# EAGLE library part 1365-90 (library con-leotronics)
DUAL ROW STRAIGHT HEADER 1364 SERIES. 1.27mm x 1.27mm. Without Fixing Post. SMT Source: http://www.leotronics.co.uk/Conexcon/Data%20Sheets/sec.%20A/1364ing.pdf
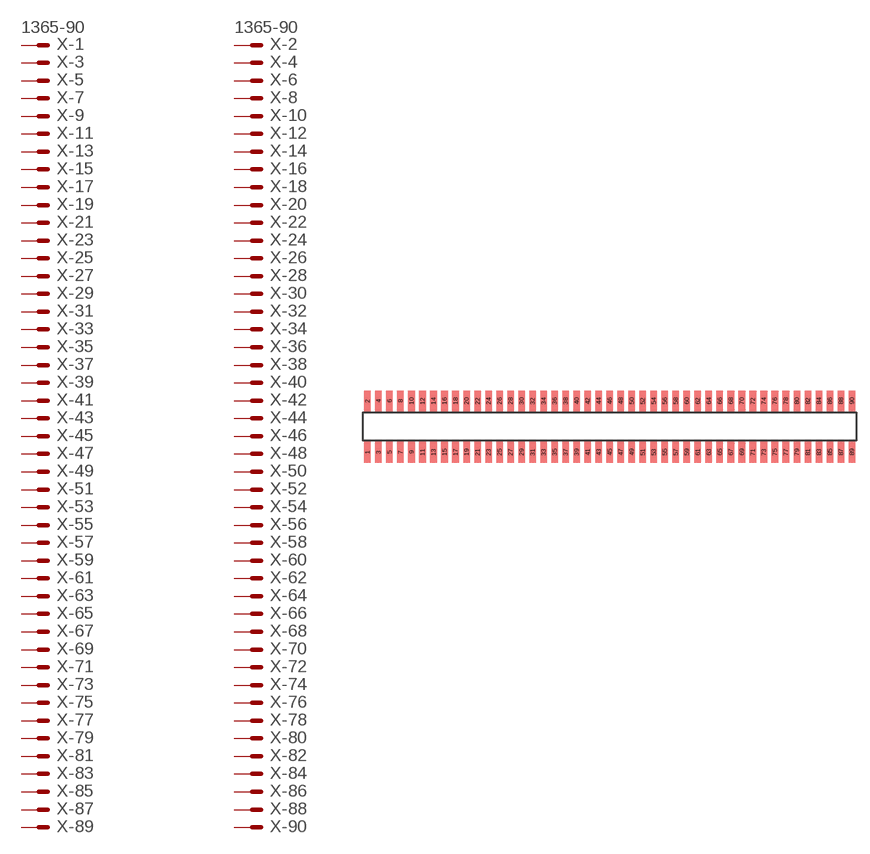
[diagram p87: symbol with the pads of 1365-90; footprint 1365-90]

Designator prefix X; gates -1=MVAL -2=MVAL -3=M -4=M -5=M -6=M -7=M -8=M -9=M -10=M -11=M -12=M -13=M -14=M -15=M -16=M -17=M -18=M -19=M -20=M -21=M -22=M -23=M -24=M -25=M -26=M -27=M -28=M -29=M -30=M -31=M -32=M -33=M -34=M -35=M -36=M -37=M -38=M -39=M -40=M -41=M -42=M -43=M -44=M -45=M -46=M -47=M -48=M -49=M -50=M -51=M -52=M -53=M -54=M -55=M -56=M -57=M -58=M -59=M -60=M -61=M -62=M -63=M -64=M -65=M -66=M -67=M -68=M -69=M -70=M -71=M -72=M -73=M -74=M -75=M -76=M -77=M -78=M -79=M -80=M -81=M -82=M -83=M -84=M -85=M -86=M -87=M -88=M -89=M -90=M

## 1365-90 (OC_FARNELL: unknown; OC_NEWARK: unknown)  [1365-90]
1  -1:S  pas
2  -2:S  pas
3  -3:S  pas
4  -4:S  pas
5  -5:S  pas
6  -6:S  pas
7  -7:S  pas
8  -8:S  pas
9  -9:S  pas
10  -10:S  pas
11  -11:S  pas
12  -12:S  pas
13  -13:S  pas
14  -14:S  pas
15  -15:S  pas
16  -16:S  pas
17  -17:S  pas
18  -18:S  pas
19  -19:S  pas
20  -20:S  pas
21  -21:S  pas
22  -22:S  pas
23  -23:S  pas
24  -24:S  pas
25  -25:S  pas
26  -26:S  pas
27  -27:S  pas
28  -28:S  pas
29  -29:S  pas
30  -30:S  pas
31  -31:S  pas
32  -32:S  pas
33  -33:S  pas
34  -34:S  pas
35  -35:S  pas
36  -36:S  pas
37  -37:S  pas
38  -38:S  pas
39  -39:S  pas
40  -40:S  pas
41  -41:S  pas
42  -42:S  pas
43  -43:S  pas
44  -44:S  pas
45  -45:S  pas
46  -46:S  pas
47  -47:S  pas
48  -48:S  pas
49  -49:S  pas
50  -50:S  pas
51  -51:S  pas
52  -52:S  pas
53  -53:S  pas
54  -54:S  pas
55  -55:S  pas
56  -56:S  pas
57  -57:S  pas
58  -58:S  pas
59  -59:S  pas
60  -60:S  pas
61  -61:S  pas
62  -62:S  pas
63  -63:S  pas
64  -64:S  pas
65  -65:S  pas
66  -66:S  pas
67  -67:S  pas
68  -68:S  pas
69  -69:S  pas
70  -70:S  pas
71  -71:S  pas
72  -72:S  pas
73  -73:S  pas
74  -74:S  pas
75  -75:S  pas
76  -76:S  pas
77  -77:S  pas
78  -78:S  pas
79  -79:S  pas
80  -80:S  pas
81  -81:S  pas
82  -82:S  pas
83  -83:S  pas
84  -84:S  pas
85  -85:S  pas
86  -86:S  pas
87  -87:S  pas
88  -88:S  pas
89  -89:S  pas
90  -90:S  pas

## Footprint 1365-90 (pad centres in mm)
DUAL ROW STRAIGHT HEADER 1364 SERIES. 1.27mm x 1.27mm. Without Fixing Post. SMT Source: http://www.leotronics.co.uk/Conexcon/Data%20Sheets/sec.%20A/1364ing.pdf
smd 0.76 x 2.4: 1 -27.94,-2.95; 2 -27.94,2.95; 3 -26.67,-2.95; 4 -26.67,2.95; 5 -25.4,-2.95; 6 -25.4,2.95; 7 -24.13,-2.95; 8 -24.13,2.95; 9 -22.86,-2.95; 10 -22.86,2.95; 11 -21.59,-2.95; 12 -21.59,2.95; 13 -20.32,-2.95; 14 -20.32,2.95; 15 -19.05,-2.95; 16 -19.05,2.95; 17 -17.78,-2.95; 18 -17.78,2.95; 19 -16.51,-2.95; 20 -16.51,2.95; 21 -15.24,-2.95; 22 -15.24,2.95; 23 -13.97,-2.95; 24 -13.97,2.95; 25 -12.7,-2.95; 26 -12.7,2.95; 27 -11.43,-2.95; 28 -11.43,2.95; 29 -10.16,-2.95; 30 -10.16,2.95; 31 -8.89,-2.95; 32 -8.89,2.95; 33 -7.62,-2.95; 34 -7.62,2.95; 35 -6.35,-2.95; 36 -6.35,2.95; 37 -5.08,-2.95; 38 -5.08,2.95; 39 -3.81,-2.95; 40 -3.81,2.95; 41 -2.54,-2.95; 42 -2.54,2.95; 43 -1.27,-2.95; 44 -1.27,2.95; 45 0,-2.95; 46 0,2.95; 47 1.27,-2.95; 48 1.27,2.95; 49 2.54,-2.95; 50 2.54,2.95; 51 3.81,-2.95; 52 3.81,2.95; 53 5.08,-2.95; 54 5.08,2.95; 55 6.35,-2.95; 56 6.35,2.95; 57 7.62,-2.95; 58 7.62,2.95; 59 8.89,-2.95; 60 8.89,2.95; 61 10.16,-2.95; 62 10.16,2.95; 63 11.43,-2.95; 64 11.43,2.95; 65 12.7,-2.95; 66 12.7,2.95; 67 13.97,-2.95; 68 13.97,2.95; 69 15.24,-2.95; 70 15.24,2.95; 71 16.51,-2.95; 72 16.51,2.95; 73 17.78,-2.95; 74 17.78,2.95; 75 19.05,-2.95; 76 19.05,2.95; 77 20.32,-2.95; 78 20.32,2.95; 79 21.59,-2.95; 80 21.59,2.95; 81 22.86,-2.95; 82 22.86,2.95; 83 24.13,-2.95; 84 24.13,2.95; 85 25.4,-2.95; 86 25.4,2.95; 87 26.67,-2.95; 88 26.67,2.95; 89 27.94,-2.95; 90 27.94,2.95